# Altium footprint library 光耦隔离--平衡组.PcbLib: 9 footprints
Each footprint in its own frame and in the unit in brackets; x right, y up, seen from the top. Pads: shape width x height; smd on the part's side, far side on the other; paste and mask are expansions set on the pad; w line width, h text height; cw(c..) or ccw(c..) is an arc to the next point about the centre after c.
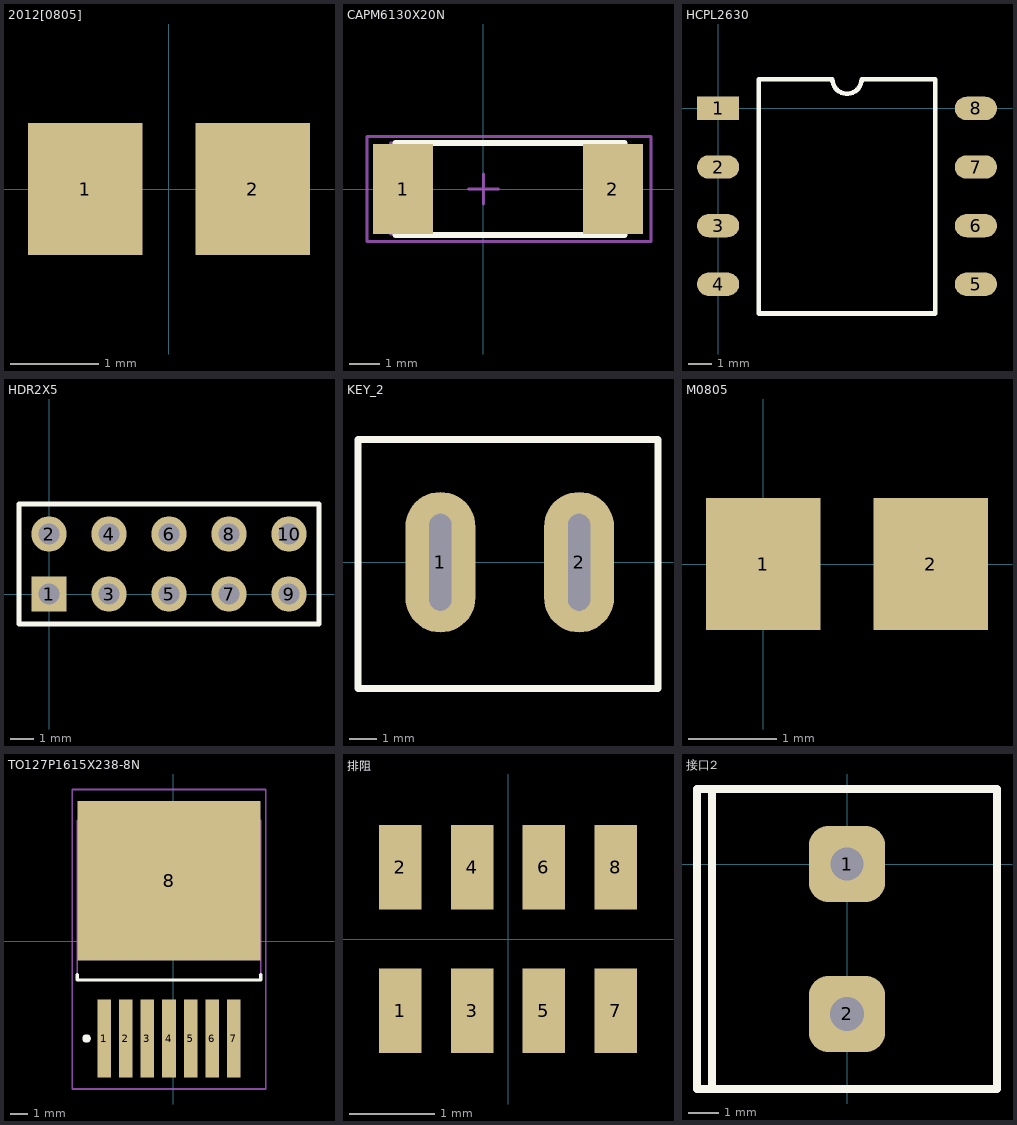
[diagram p0: the footprints below, top view; thin cyan lines are the x and y axes]

## 2012[0805] [mm] "Chip Resistor; Body 2.0 x 1.3 mm (LxW typ)"
height 2.54
pads (2):
  rect 1.3x1.5 smd: 1(-0.95,0) 2(0.95,0)

## CAPM6130X20N [mm] "Molded Capacitor, 2-Leads, Body 6.1x3.0mm, IPC Medium Density"
height 2
pads (2):
  rect 2x3 smd: 1(-2.675,0) 2(4.318,0)
Top Overlay:
  lines w0.2: -2.921,-0.635 -2.921,-1.524 4.699,-1.524 4.699,-0.635 ; -2.921,0.635 -2.921,1.524 4.699,1.524 4.699,0.762
Mechanical 13:
  lines w0.1: -3.1,-1.5 4.699,-1.5 4.699,1.524 -3.1,1.524 -3.1,-1.5
Mechanical 15:
  lines w0.1: -0.5,0 0.5,0 ; 0,-0.5 0,0.5 ; -3.875,-1.75 5.588,-1.75 5.588,1.75 -3.875,1.75 -3.875,-1.75
3D body: height 2, standoff 0, extent -3.1,-1.5 4.953,1.5

## HCPL2630 [mm]
height 0.65
pads (8):
  rect 1.8x1 smd: 1(0,0)
  oval 1.8x1 smd: 2(0,-2.5) 3(0,-5) 4(0,-7.5) 5(11,-7.5) 6(11,-5) 7(11,-2.5) 8(11,0)
Top Overlay:
  lines w0.2: 1.735,-8.75 9.265,-8.75 9.265,1.25 6.125,1.25 cw(c5.5,1.25) 4.875,1.25 1.735,1.25 1.735,-8.75

## HDR2X5 [mm] "Connector; Header; 5x2 Position"
height 0.65
pads (10):
  rect 1.5x1.5 hole 0.9: 1(0,0)
  round 1.5 hole 0.9: 2(0,2.54) 3(2.54,0) 4(2.54,2.54) 5(5.08,0) 6(5.08,2.54) 7(7.62,0) 8(7.62,2.54) 9(10.16,0) 10(10.16,2.54)
Top Overlay:
  lines w0.2: -1.27,-1.27 11.43,-1.27 11.43,3.81 -1.27,3.81 -1.27,-1.27

## KEY_2 [mm]
height 0.65
pads (2):
  oval 2.54x5.08 hole 0.8 slot 3.5 at 90 deg: 1(5.08,0) 2(10.1,0)
Top Overlay:
  lines w0.254: 2.1,-4.572 2.1,4.445 12.954,4.445 12.954,-4.572 2.1,-4.572

## M0805 [mm]
height 1.9
pads (2):
  rect 1.3x1.5 smd: 1(0,0) 2(1.9,0)

## TO127P1615X238-8N [mm]
height 2.38
pads (8):
  rect 0.8x4.6 smd: 1(-4.064,-5.723) 2(-2.794,-5.723) 3(-1.524,-5.723) 4(-0.254,-5.723) 5(1.016,-5.723) 6(2.286,-5.723) 7(3.556,-5.723)
  rect 10.8x9.4 smd: 8(-0.254,3.577)
Top Overlay:
  circle w0.25: c-5.114,-5.723 r0.125
  lines w0.2: -5.654,-1.973 -5.654,-2.273 5.146,-2.273 5.146,-1.973
Mechanical 13:
  lines w0.1: -5.654,-2.273 -5.654,7.127 5.146,7.127 5.146,-2.273 -5.654,-2.273
Mechanical 15:
  lines w0.1: -0.754,0.127 0.246,0.127 ; -0.254,-0.373 -0.254,0.627 ; -5.954,-8.698 5.446,-8.698 5.446,8.952 -5.954,8.952 -5.954,-8.698

## 排阻 [mm]
height 1.9
pads (8):
  rect 0.5x1 smd: 1(-1.27,-0.847) 2(-1.27,0.847) 3(-0.423,-0.847) 4(-0.423,0.847) 5(0.423,-0.847) 6(0.423,0.847) 7(1.27,-0.847) 8(1.27,0.847)

## 接口2 [mm]
height 0.65
pads (2):
  rrect50% 2.54x2.54 hole 1.1: 1(0,0)
  rrect50% 2.54x2.54 hole 1.143: 2(0,-5)
Top Overlay:
  lines w0.254: -4.5,-7.5 -4.5,2.5 ; -5,-7.5 5,-7.5 5,2.5 0,2.5 -5,2.5 -5,-7.5